# Altium schematic symbol library ADC1X2200-10_V1-1.SCHLIB: 50 symbols
Pins are listed as number, name and electrical type; pins without a type are passive.

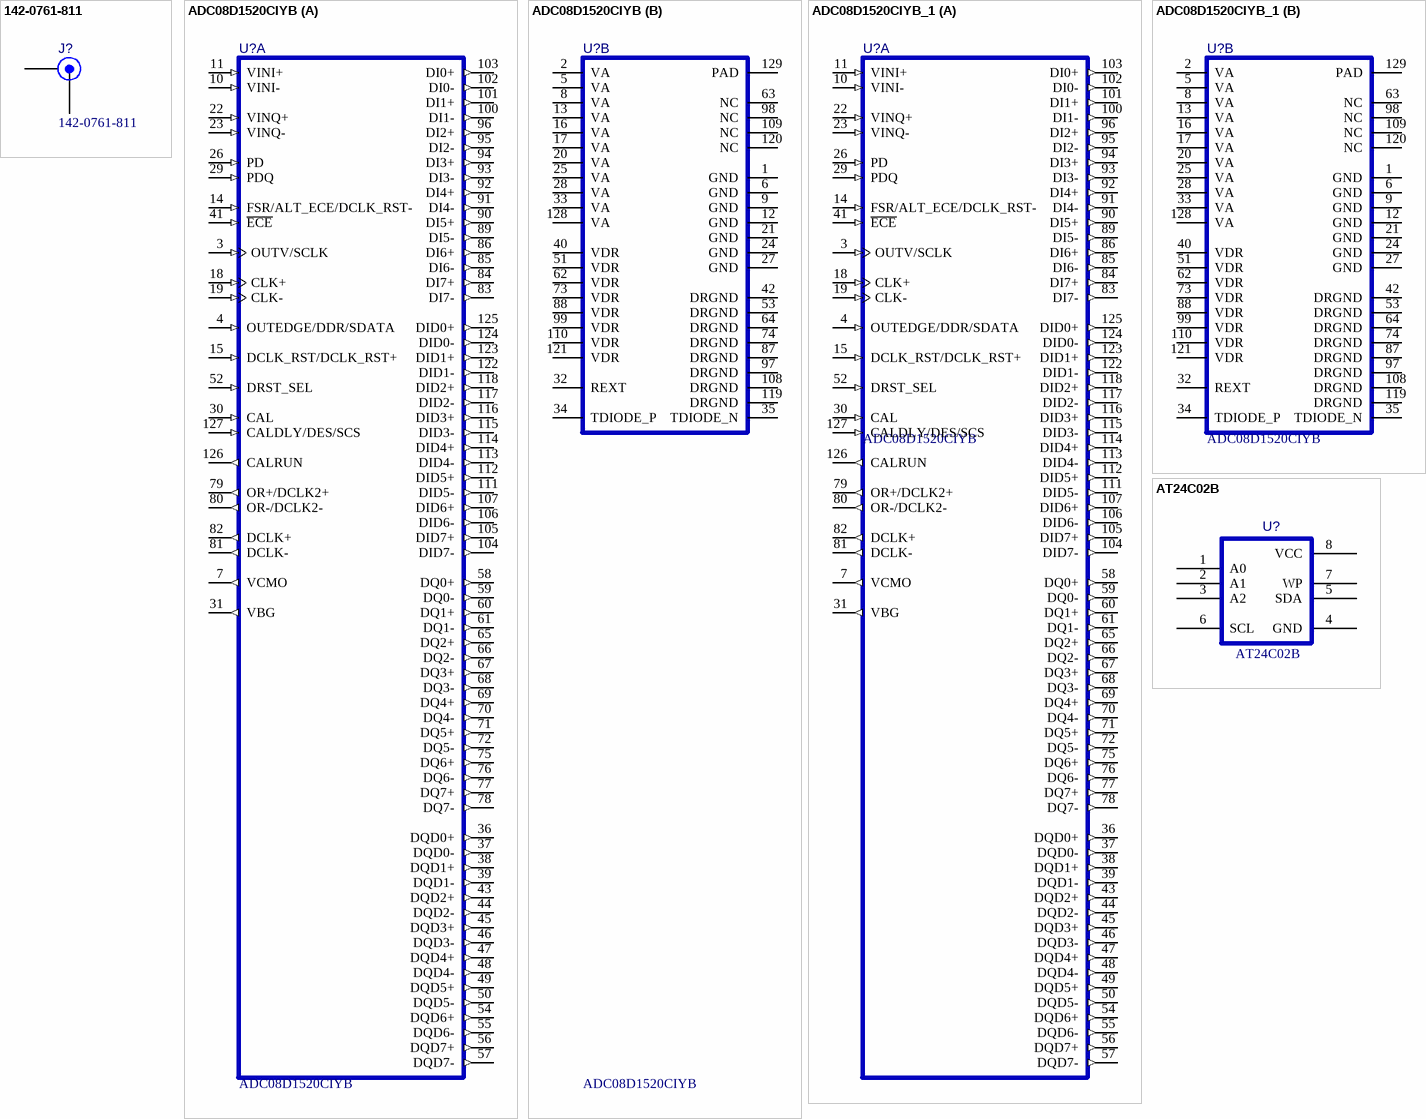
[diagram p0: symbols 142-0761-811 to AT24C02B]

## 142-0761-811
designator J?  Manufacturer_PN: 142-0761-811
High Frequency SMA End Lauch Connector; Manufacturer: JOHNSON; Created_By: CT; Voltage: ???; Checked_By: *; Checked_Date: *; HelpURL: *; ComponentLink1Description: High Frequency SMA End Lauch Connector; ComponentLink1URL: *; ComponentLink2Description: Application Note; ComponentLink2URL: *; ComponentLink3Description: Layout Guidelines; ComponentLink3URL: *; ComponentLink4Description: Technology Reference; ComponentLink4URL: *; Supplier1: *; Supplier2: *; Unit_Cost: *; MOQ: *; Leadtime: *; Inventory_Stock: *; Tolerance: *; Wattage: *; Package: *; ComponentLink5Description: Production Detail; ComponentLink5URL: *; Note: *; Stock Code: *
footprint EDGE_LAUNCH_TH_SMA
pins: 1, 2

## ADC08D1520CIYB
designator U?
Low Power, 8-Bit, Dual 1.5 GSPS or Single 3.0 GSPS A/D Converter; Manufacturer: National Semiconductor; Created_By: IN; Manufacturer_PN: ADC08D1520CIYB; Checked_By: *; Checked_Date: *; HelpURL: X:\Datasheets\By_Manufacturer\National Semi\ADC08D1520.pdf; ComponentLink1Description: X:\Datasheets\By_Manufacturer\National Semi\ADC08D1520.pdf#page=4; ComponentLink1URL: *; ComponentLink2Description: Application Note; ComponentLink2URL: *; ComponentLink3Description: Layout Guidelines; ComponentLink3URL: *; ComponentLink4Description: Technology Reference; ComponentLink4URL: *; Supplier1: *; Supplier2: *; Unit_Cost: *; MOQ: *; Leadtime: *; Inventory_Stock: *; Tolerance: *; Wattage: *; Voltage: *; Package: *; ComponentLink5Description: Production Detail; ComponentLink5URL: *; Note: *; Stock Code: *
footprint VNX128A_M (Thin QFP, 128-Leads, Body 20x20mm, Pitch 0.5mm, Exposed Pad, IPC Low Density)
footprint NS_VNX128A
part A pins: 3 OUTV/SCLK (in), 4 OUTEDGE/DDR/SDATA (in), 7 VCMO (out), 10 VINI- (in), 11 VINI+ (in), 14 FSR/ALT_ECE/DCLK_RST- (in), 15 DCLK_RST/DCLK_RST+ (in), 18 CLK+ (in), 19 CLK- (in), 22 VINQ+ (in), 23 VINQ- (in), 26 PD (in), 29 PDQ (in), 30 CAL (in), 31 VBG (out), 36 DQD0+ (out), 37 DQD0- (out), 38 DQD1+ (out), 39 DQD1- (out), 41 ~{ECE} (in), 43 DQD2+ (out), 44 DQD2- (out), 45 DQD3+ (out), 46 DQD3- (out), 47 DQD4+ (out), 48 DQD4- (out), 49 DQD5+ (out), 50 DQD5- (out), 52 DRST_SEL (in), 54 DQD6+ (out), 55 DQD6- (out), 56 DQD7+ (out), 57 DQD7- (out), 58 DQ0+ (out), 59 DQ0- (out), 60 DQ1+ (out), 61 DQ1- (out), 65 DQ2+ (out), 66 DQ2- (out), 67 DQ3+ (out), 68 DQ3- (out), 69 DQ4+ (out), 70 DQ4- (out), 71 DQ5+ (out), 72 DQ5- (out), 75 DQ6+ (out), 76 DQ6- (out), 77 DQ7+ (out), 78 DQ7- (out), 79 OR+/DCLK2+ (out), 80 OR-/DCLK2- (out), 81 DCLK- (out), 82 DCLK+ (out), 83 DI7- (out), 84 DI7+ (out), 85 DI6- (out), 86 DI6+ (out), 89 DI5- (out), 90 DI5+ (out), 91 DI4- (out), 92 DI4+ (out), 93 DI3- (out), 94 DI3+ (out), 95 DI2- (out), 96 DI2+ (out), 100 DI1- (out), 101 DI1+ (out), 102 DI0- (out), 103 DI0+ (out), 104 DID7- (out), 105 DID7+ (out), 106 DID6- (out), 107 DID6+ (out), 111 DID5- (out), 112 DID5+ (out), 113 DID4- (out), 114 DID4+ (out), 115 DID3- (out), 116 DID3+ (out), 117 DID2- (out), 118 DID2+ (out), 122 DID1- (out), 123 DID1+ (out), 124 DID0- (out), 125 DID0+ (out), 126 CALRUN (out), 127 CALDLY/DES/SCS (in)
part B pins: 1 GND (power), 2 VA (power), 5 VA (power), 6 GND (power), 8 VA (power), 9 GND (power), 12 GND (power), 13 VA (power), 16 VA (power), 17 VA (power), 20 VA (power), 21 GND (power), 24 GND (power), 25 VA (power), 27 GND (power), 28 VA (power), 32 REXT, 33 VA (power), 34 TDIODE_P, 35 TDIODE_N, 40 VDR (power), 42 DRGND (power), 51 VDR (power), 53 DRGND (power), 62 VDR (power), 63 NC, 64 DRGND (power), 73 VDR (power), 74 DRGND (power), 87 DRGND (power), 88 VDR (power), 97 DRGND (power), 98 NC, 99 VDR (power), 108 DRGND (power), 109 NC, 110 VDR (power), 119 DRGND (power), 120 NC, 121 VDR (power), 128 VA (power), 129 PAD (power)

## ADC08D1520CIYB_1
designator U?, comment ADC08D1520CIYB
Low Power, 8-Bit, Dual 1.5 GSPS or Single 3.0 GSPS A/D Converter; Manufacturer: National Semiconductor; Created_By: IN; Manufacturer_PN: ADC08D1520CIYB; Checked_By: *; Checked_Date: *; HelpURL: X:\Datasheets\By_Manufacturer\National Semi\ADC08D1520.pdf; ComponentLink1Description: X:\Datasheets\By_Manufacturer\National Semi\ADC08D1520.pdf#page=4; ComponentLink1URL: *; ComponentLink2Description: Application Note; ComponentLink2URL: *; ComponentLink3Description: Layout Guidelines; ComponentLink3URL: *; ComponentLink4Description: Technology Reference; ComponentLink4URL: *; Supplier1: *; Supplier2: *; Unit_Cost: *; MOQ: *; Leadtime: *; Inventory_Stock: *; Tolerance: *; Wattage: *; Voltage: *; Package: *; ComponentLink5Description: Production Detail; ComponentLink5URL: *; Note: *; Stock Code: *
part A pins: 3 OUTV/SCLK (in), 4 OUTEDGE/DDR/SDATA (in), 7 VCMO (out), 10 VINI- (in), 11 VINI+ (in), 14 FSR/ALT_ECE/DCLK_RST- (in), 15 DCLK_RST/DCLK_RST+ (in), 18 CLK+ (in), 19 CLK- (in), 22 VINQ+ (in), 23 VINQ- (in), 26 PD (in), 29 PDQ (in), 30 CAL (in), 31 VBG (out), 36 DQD0+ (out), 37 DQD0- (out), 38 DQD1+ (out), 39 DQD1- (out), 41 ~{ECE} (in), 43 DQD2+ (out), 44 DQD2- (out), 45 DQD3+ (out), 46 DQD3- (out), 47 DQD4+ (out), 48 DQD4- (out), 49 DQD5+ (out), 50 DQD5- (out), 52 DRST_SEL (in), 54 DQD6+ (out), 55 DQD6- (out), 56 DQD7+ (out), 57 DQD7- (out), 58 DQ0+ (out), 59 DQ0- (out), 60 DQ1+ (out), 61 DQ1- (out), 65 DQ2+ (out), 66 DQ2- (out), 67 DQ3+ (out), 68 DQ3- (out), 69 DQ4+ (out), 70 DQ4- (out), 71 DQ5+ (out), 72 DQ5- (out), 75 DQ6+ (out), 76 DQ6- (out), 77 DQ7+ (out), 78 DQ7- (out), 79 OR+/DCLK2+ (out), 80 OR-/DCLK2- (out), 81 DCLK- (out), 82 DCLK+ (out), 83 DI7- (out), 84 DI7+ (out), 85 DI6- (out), 86 DI6+ (out), 89 DI5- (out), 90 DI5+ (out), 91 DI4- (out), 92 DI4+ (out), 93 DI3- (out), 94 DI3+ (out), 95 DI2- (out), 96 DI2+ (out), 100 DI1- (out), 101 DI1+ (out), 102 DI0- (out), 103 DI0+ (out), 104 DID7- (out), 105 DID7+ (out), 106 DID6- (out), 107 DID6+ (out), 111 DID5- (out), 112 DID5+ (out), 113 DID4- (out), 114 DID4+ (out), 115 DID3- (out), 116 DID3+ (out), 117 DID2- (out), 118 DID2+ (out), 122 DID1- (out), 123 DID1+ (out), 124 DID0- (out), 125 DID0+ (out), 126 CALRUN (out), 127 CALDLY/DES/SCS (in)
part B pins: 1 GND (power), 2 VA (power), 5 VA (power), 6 GND (power), 8 VA (power), 9 GND (power), 12 GND (power), 13 VA (power), 16 VA (power), 17 VA (power), 20 VA (power), 21 GND (power), 24 GND (power), 25 VA (power), 27 GND (power), 28 VA (power), 32 REXT, 33 VA (power), 34 TDIODE_P, 35 TDIODE_N, 40 VDR (power), 42 DRGND (power), 51 VDR (power), 53 DRGND (power), 62 VDR (power), 63 NC, 64 DRGND (power), 73 VDR (power), 74 DRGND (power), 87 DRGND (power), 88 VDR (power), 97 DRGND (power), 98 NC, 99 VDR (power), 108 DRGND (power), 109 NC, 110 VDR (power), 119 DRGND (power), 120 NC, 121 VDR (power), 128 VA (power), 129 PAD (power)

## AT24C02B
designator U?
Two wire Serial EEPROM 2K (256 x 8); Manufacturer: Atmel; Created_By: IN; Manufacturer_PN: AT24C02B; Checked_By: *; Checked_Date: *; HelpURL: X:\Datasheets\By_Manufacturer\ATMEL\at24c02b.pdf; ComponentLink1Description: Footprint Detail; ComponentLink1URL: *; ComponentLink2Description: Application Note; ComponentLink2URL: *; ComponentLink3Description: Layout Guidelines; ComponentLink3URL: *; ComponentLink4Description: Technology Reference; ComponentLink4URL: *; Supplier1: *; Supplier2: *; Unit_Cost: *; MOQ: *; Leadtime: *; Inventory_Stock: *; Tolerance: *; Wattage: *; Voltage: *; Package: *; ComponentLink5Description: Production Detail; ComponentLink5URL: *; Note: *; Stock Code: *
footprint S08_SOIC127P600X175-8M (SOIC, 8-Leads, Body 5.0x4.0mm (max), Pitch 1.27mm, IPC Low Density)
footprint SOIC127P600X175-8N
pins: 1 A0, 2 A1, 3 A2, 4 GND (power), 5 SDA, 6 SCL, 7 WP, 8 VCC

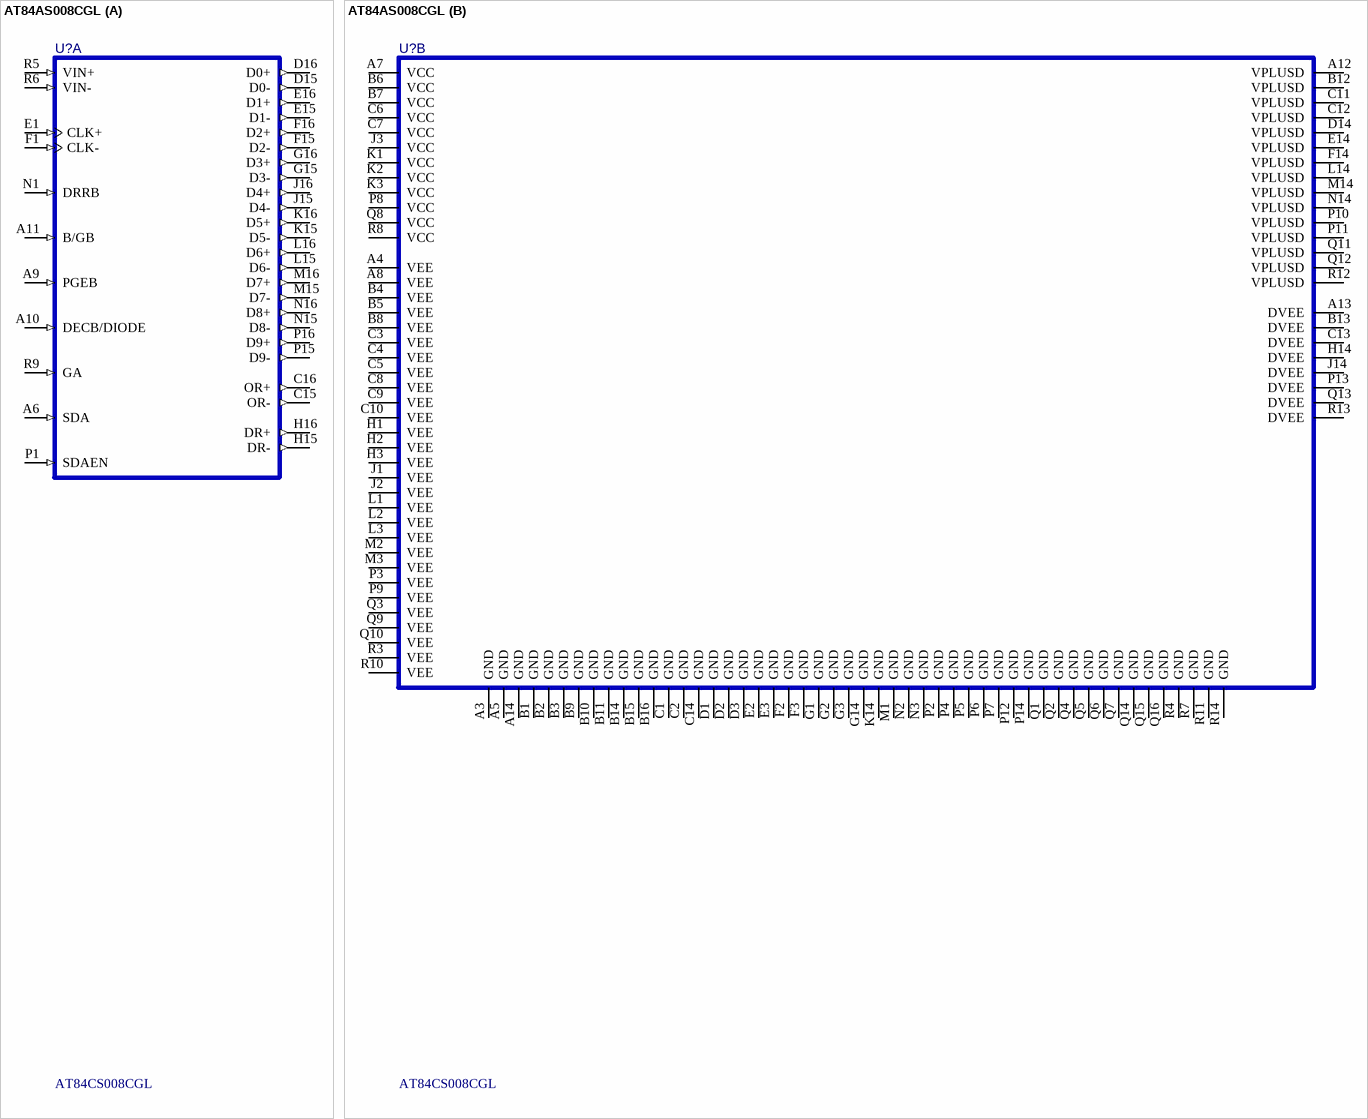
[diagram p1: symbol AT84AS008CGL]

## AT84AS008CGL
designator U?, comment AT84CS008CGL
10-bit 2.2Gsps ADC; Manufacturer: e2V; Created_By: IN; Manufacturer_PN: AT84CS008CGL; Checked_By: *; Checked_Date: *; HelpURL: X:\Datasheets\By_Manufacturer\National Semi\ADC08D1520.pdf; ComponentLink1Description: X:\Datasheets\By_Manufacturer\National Semi\ADC08D1520.pdf#page=4; ComponentLink1URL: *; ComponentLink2Description: Application Note; ComponentLink2URL: *; ComponentLink3Description: Layout Guidelines; ComponentLink3URL: *; ComponentLink4Description: Technology Reference; ComponentLink4URL: *; Supplier1: *; Supplier2: *; Unit_Cost: *; MOQ: *; Leadtime: *; Inventory_Stock: *; Tolerance: *; Wattage: *; Voltage: *; Package: *; ComponentLink5Description: Production Detail; ComponentLink5URL: *; Note: *; Stock Code: *
footprint BGA156x16 (CBGA 152 (1.27mm x 0.8mm BGA))
part A pins: A6 SDA (in), A9 PGEB (in), A10 DECB/DIODE (in), A11 B/GB (in), C15 OR- (out), C16 OR+ (out), D15 D0- (out), D16 D0+ (out), E1 CLK+ (in), E15 D1- (out), E16 D1+ (out), F1 CLK- (in), F15 D2- (out), F16 D2+ (out), G15 D3- (out), G16 D3+ (out), H15 DR- (out), H16 DR+ (out), J15 D4- (out), J16 D4+ (out), K15 D5- (out), K16 D5+ (out), L15 D6- (out), L16 D6+ (out), M15 D7- (out), M16 D7+ (out), N1 DRRB (in), N15 D8- (out), N16 D8+ (out), P1 SDAEN (in), P15 D9- (out), P16 D9+ (out), R5 VIN+ (in), R6 VIN- (in), R9 GA (in)
part B pins: A3 GND (power), A4 VEE (power), A5 GND (power), A7 VCC (power), A8 VEE (power), A12 VPLUSD (power), A13 DVEE (power), A14 GND (power), B1 GND (power), B2 GND (power), B3 GND (power), B4 VEE (power), B5 VEE (power), B6 VCC (power), B7 VCC (power), B8 VEE (power), B9 GND (power), B10 GND (power), B11 GND (power), B12 VPLUSD (power), B13 DVEE (power), B14 GND (power), B15 GND (power), B16 GND (power), C1 GND (power), C2 GND (power), C3 VEE (power), C4 VEE (power), C5 VEE (power), C6 VCC (power), C7 VCC (power), C8 VEE (power), C9 VEE (power), C10 VEE (power), C11 VPLUSD (power), C12 VPLUSD (power), C13 DVEE (power), C14 GND (power), D1 GND (power), D2 GND (power), D3 GND (power), D14 VPLUSD (power), E2 GND (power), E3 GND (power), E14 VPLUSD (power), F2 GND (power), F3 GND (power), F14 VPLUSD (power), G1 GND (power), G2 GND (power), G3 GND (power), G14 GND (power), H1 VEE (power), H2 VEE (power), H3 VEE (power), H14 DVEE (power), J1 VEE (power), J2 VEE (power), J3 VCC (power), J14 DVEE (power), K1 VCC (power), K2 VCC (power), K3 VCC (power), K14 GND (power), L1 VEE (power), L2 VEE (power), L3 VEE (power), L14 VPLUSD (power), M1 GND (power), M2 VEE (power), M3 VEE (power), M14 VPLUSD (power), N2 GND (power), N3 GND (power), N14 VPLUSD (power), P2 GND (power), P3 VEE (power), P4 GND (power), P5 GND (power), P6 GND (power), P7 GND (power), P8 VCC (power), P9 VEE (power), P10 VPLUSD (power), P11 VPLUSD (power), P12 GND (power), P13 DVEE (power), P14 GND (power), Q1 GND (power), Q2 GND (power), Q3 VEE (power), Q4 GND (power), Q5 GND (power), Q6 GND (power), Q7 GND (power), Q8 VCC (power), Q9 VEE (power), Q10 VEE (power), Q11 VPLUSD (power), Q12 VPLUSD (power), Q13 DVEE (power), Q14 GND (power), Q15 GND (power), Q16 GND (power), R3 VEE (power), R4 GND (power), R7 GND (power), R8 VCC (power), R10 VEE (power), R11 GND (power), R12 VPLUSD (power), R13 DVEE (power), R14 GND (power)

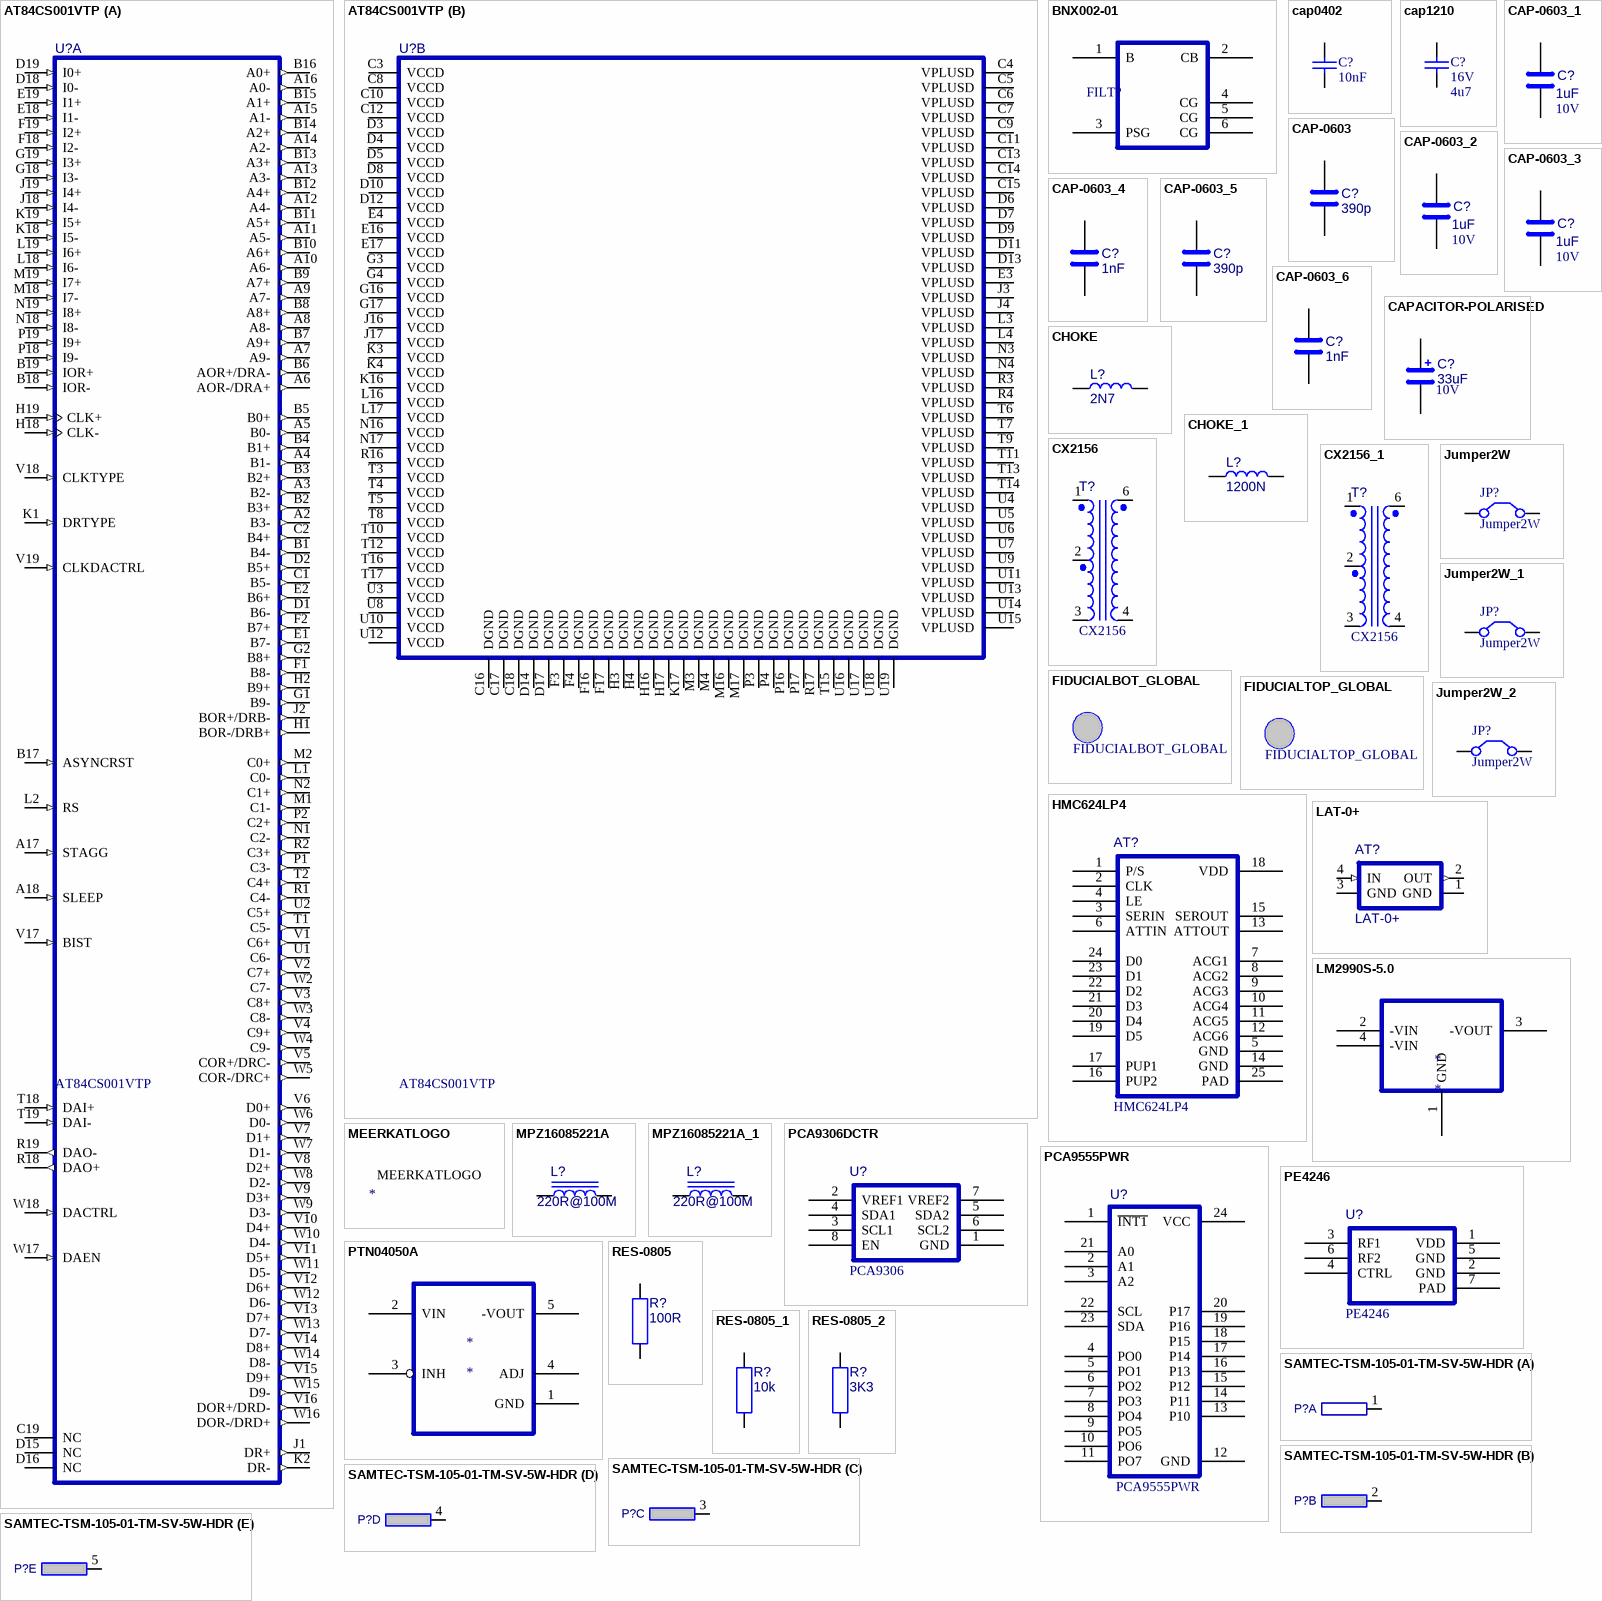
[diagram p2: symbols AT84CS001VTP to SAMTEC-TSM-105-01-TM-SV-5W-HDR]

## AT84CS001VTP
designator U?
10-bit 2.2Gsps 1:4 DMUX; Manufacturer: e2V; Created_By: IN; Manufacturer_PN: AT84CS001VTP; Checked_By: *; Checked_Date: *; HelpURL: X:\Datasheets\By_Manufacturer\National Semi\ADC08D1520.pdf; ComponentLink1Description: X:\Datasheets\By_Manufacturer\National Semi\ADC08D1520.pdf#page=4; ComponentLink1URL: *; ComponentLink2Description: Application Note; ComponentLink2URL: *; ComponentLink3Description: Layout Guidelines; ComponentLink3URL: *; ComponentLink4Description: Technology Reference; ComponentLink4URL: *; Supplier1: *; Supplier2: *; Unit_Cost: *; MOQ: *; Leadtime: *; Inventory_Stock: *; Tolerance: *; Wattage: *; Voltage: *; Package: *; ComponentLink5Description: Production Detail; ComponentLink5URL: *; Note: *; Stock Code: *
footprint BGA240x19
part A pins: A2 B3- (out), A3 B2- (out), A4 B1- (out), A5 B0- (out), A6 AOR-/DRA+ (out), A7 A9- (out), A8 A8- (out), A9 A7- (out), A10 A6- (out), A11 A5- (out), A12 A4- (out), A13 A3- (out), A14 A2- (out), A15 A1- (out), A16 A0- (out), A17 STAGG (in), A18 SLEEP (in), B1 B4- (out), B2 B3+ (out), B3 B2+ (out), B4 B1+ (out), B5 B0+ (out), B6 AOR+/DRA- (out), B7 A9+ (out), B8 A8+ (out), B9 A7+ (out), B10 A6+ (out), B11 A5+ (out), B12 A4+ (out), B13 A3+ (out), B14 A2+ (out), B15 A1+ (out), B16 A0+ (out), B17 ASYNCRST (in), B18 IOR- (in), B19 IOR+ (in), C1 B5- (out), C2 B4+ (out), C19 NC, D1 B6- (out), D2 B5+ (out), D15 NC, D16 NC, D18 I0- (in), D19 I0+ (in), E1 B7- (out), E2 B6+ (out), E18 I1- (in), E19 I1+ (in), F1 B8- (out), F2 B7+ (out), F18 I2- (in), F19 I2+ (in), G1 B9- (out), G2 B8+ (out), G18 I3- (in), G19 I3+ (in), H1 BOR-/DRB+ (out), H2 B9+ (out), H18 CLK- (in), H19 CLK+ (in), J1 DR+ (out), J2 BOR+/DRB- (out), J18 I4- (in), J19 I4+ (in), K1 DRTYPE (in), K2 DR- (out), K18 I5- (in), K19 I5+ (in), L1 C0- (out), L2 RS (in), L18 I6- (in), L19 I6+ (in), M1 C1- (out), M2 C0+ (out), M18 I7- (in), M19 I7+ (in), N1 C2- (out), N2 C1+ (out), N18 I8- (in), N19 I8+ (in), P1 C3- (out), P2 C2+ (out), P18 I9- (in), P19 I9+ (in), R1 C4- (out), R2 C3+ (out), R18 DAO+ (out), R19 DAO- (out), T1 C5- (out), T2 C4+ (out), T18 DAI+ (in), T19 DAI- (in), U1 C6- (out), U2 C5+ (out), V1 C6+ (out), V2 C7+ (out), V3 C8+ (out), V4 C9+ (out), V5 COR+/DRC- (out), V6 D0+ (out), V7 D1+ (out), V8 D2+ (out), V9 D3+ (out), V10 D4+ (out), V11 D5+ (out), V12 D6+ (out), V13 D7+ (out), V14 D8+ (out), V15 D9+ (out), V16 DOR+/DRD- (out), V17 BIST (in), V18 CLKTYPE (in), V19 CLKDACTRL (in), W2 C7- (out), W3 C8- (out), W4 C9- (out), W5 COR-/DRC+ (out), W6 D0- (out), W7 D1- (out), W8 D2- (out), W9 D3- (out), W10 D4- (out), W11 D5- (out), W12 D6- (out), W13 D7- (out), W14 D8- (out), W15 D9- (out), W16 DOR-/DRD+ (out), W17 DAEN (in), W18 DACTRL (in)
part B pins: C3 VCCD (power), C4 VPLUSD (power), C5 VPLUSD (power), C6 VPLUSD (power), C7 VPLUSD (power), C8 VCCD (power), C9 VPLUSD (power), C10 VCCD (power), C11 VPLUSD (power), C12 VCCD (power), C13 VPLUSD (power), C14 VPLUSD (power), C15 VPLUSD (power), C16 DGND (power), C17 DGND (power), C18 DGND (power), D3 VCCD (power), D4 VCCD (power), D5 VCCD (power), D6 VPLUSD (power), D7 VPLUSD (power), D8 VCCD (power), D9 VPLUSD (power), D10 VCCD (power), D11 VPLUSD (power), D12 VCCD (power), D13 VPLUSD (power), D14 DGND (power), D17 DGND (power), E3 VPLUSD (power), E4 VCCD (power), E16 VCCD (power), E17 VCCD (power), F3 DGND (power), F4 DGND (power), F16 DGND (power), F17 DGND (power), G3 VCCD (power), G4 VCCD (power), G16 VCCD (power), G17 VCCD (power), H3 DGND (power), H4 DGND (power), H16 DGND (power), H17 DGND (power), J3 VPLUSD (power), J4 VPLUSD (power), J16 VCCD (power), J17 VCCD (power), K3 VCCD (power), K4 VCCD (power), K16 VCCD (power), K17 DGND (power), L3 VPLUSD (power), L4 VPLUSD (power), L16 VCCD (power), L17 VCCD (power), M3 DGND (power), M4 DGND (power), M16 DGND (power), M17 DGND (power), N3 VPLUSD (power), N4 VPLUSD (power), N16 VCCD (power), N17 VCCD (power), P3 DGND (power), P4 DGND (power), P16 DGND (power), P17 DGND (power), R3 VPLUSD (power), R4 VPLUSD (power), R16 VCCD (power), R17 DGND (power), T3 VCCD (power), T4 VCCD (power), T5 VCCD (power), T6 VPLUSD (power), T7 VPLUSD (power), T8 VCCD (power), T9 VPLUSD (power), T10 VCCD (power), T11 VPLUSD (power), T12 VCCD (power), T13 VPLUSD (power), T14 VPLUSD (power), T15 DGND (power), T16 VCCD (power), T17 VCCD (power), U3 VCCD (power), U4 VPLUSD (power), U5 VPLUSD (power), U6 VPLUSD (power), U7 VPLUSD (power), U8 VCCD (power), U9 VPLUSD (power), U10 VCCD (power), U11 VPLUSD (power), U12 VCCD (power), U13 VPLUSD (power), U14 VPLUSD (power), U15 VPLUSD (power), U16 DGND (power), U17 DGND (power), U18 DGND (power), U19 DGND (power)

## BNX002-01
designator FILT?  (value not drawn)
Checked_By: *; Checked_Date: *; HelpURL: *; Supplier1: *; Supplier2: *; Unit_Cost: *; MOQ: *; Leadtime: *; Inventory_Stock: *; Tolerance: *; Wattage: *; Package: BNX002-01; ComponentLinked1Description: *; ComponentLinked1URL: *; ComponentLinked2Description: *; ComponentLinked2URL: *; ComponentLinked3Description: *; ComponentLinked3URL: *; ComponentLinked4Description: *; ComponentLinked4URL: *
footprint BNX002-01
pins: 1 B (power), 2 CB (power), 3 PSG (power), 4 CG (power), 5 CG (power), 6 CG (power)

## cap0402
designator C?, comment value 10nF  (hidden comment: Capacitor 0402 SMD)
Created_By: EDA-ASA; Checked_By: *; Checked_Date: *; HelpURL: *; Supplier1: *; Supplier2: *; Unit_Cost: *; MOQ: *; Leadtime: *; Inventory_Stock: *; Tolerance: *; Wattage: *; Package: 0402; ComponentLinked1Description: *; ComponentLinked1URL: *; ComponentLinked2Description: *; ComponentLinked2URL: *; ComponentLinked3Description: *; ComponentLinked3URL: *; ComponentLinked4Description: *; ComponentLinked4URL: *
footprint 1005-0402_CAP0402C1005X06N (Chip Capacitor, 2-Leads, Body 1.0x0.5mm, IPC Medium Density)
footprint CAPC1005X55N
pins: 1, 2

## cap1210
designator C?, comment value 4u7  Voltage: 16V  (hidden comment: Capacitor 1210 SMD)
Created_By: EDA-ASA; Checked_By: *; Checked_Date: *; HelpURL: *; Supplier1: *; Supplier2: *; Unit_Cost: *; MOQ: *; Leadtime: *; Inventory_Stock: *; Tolerance: *; Wattage: *; Package: 1210; ComponentLinked1Description: *; ComponentLinked1URL: *; ComponentLinked2Description: *; ComponentLinked2URL: *; ComponentLinked3Description: *; ComponentLinked3URL: *; ComponentLinked4Description: *; ComponentLinked4URL: *
footprint CAPC3225X220N
pins: 1, 2

## CAP-0603
designator C?  value 390p  (hidden comment: *)
CAP SMD 0603; Manufacturer: *; Manufacturer_PN: *; Created_By: *; Checked_By: *; Checked_Date: *; HelpURL: *; ComponentLink1Description: Footprint Detail; ComponentLink1URL: *; ComponentLink2Description: Application Note; ComponentLink2URL: *; ComponentLink3Description: Layout Guidelines; ComponentLink3URL: *; ComponentLink4Description: Technology Reference; ComponentLink4URL: *; Supplier1: *; Supplier2: *; Unit_Cost: *; MOQ: *; Leadtime: *; Inventory_Stock: *; Tolerance: *; Wattage: *; Voltage: *; Package: 0603; ComponentLink5Description: Production Detail; ComponentLink5URL: *; Note: *; Stock Code: *
footprint 1608-0603_RESC2810X04N (Chip Resistor, 2-Leads, Body 2.8x1.0mm, IPC Medium Density)
3D model RES-0603 (PCB3D Model)
footprint CAPC1005X55N
pins: 1, 2

## CAP-0603_1
designator C?  value 1uF  Voltage: 10V  (hidden comment: *)
CAP SMD 0603; Manufacturer: *; Manufacturer_PN: *; Created_By: *; Checked_By: *; Checked_Date: *; HelpURL: *; ComponentLink1Description: Footprint Detail; ComponentLink1URL: *; ComponentLink2Description: Application Note; ComponentLink2URL: *; ComponentLink3Description: Layout Guidelines; ComponentLink3URL: *; ComponentLink4Description: Technology Reference; ComponentLink4URL: *; Supplier1: *; Supplier2: *; Unit_Cost: *; MOQ: *; Leadtime: *; Inventory_Stock: *; Tolerance: *; Wattage: *; Package: 0603; ComponentLink5Description: Production Detail; ComponentLink5URL: *; Note: *; Stock Code: *
footprint 1608-0603_RESC2810X04N (Chip Resistor, 2-Leads, Body 2.8x1.0mm, IPC Medium Density)
3D model RES-0603 (PCB3D Model)
footprint CAPC1632X80USR
pins: 1, 2

## CAP-0603_2
designator C?  value 1uF  Voltage: 10V  (hidden comment: *)
CAP SMD 0603; Manufacturer: *; Manufacturer_PN: *; Created_By: *; Checked_By: *; Checked_Date: *; HelpURL: *; ComponentLink1Description: Footprint Detail; ComponentLink1URL: *; ComponentLink2Description: Application Note; ComponentLink2URL: *; ComponentLink3Description: Layout Guidelines; ComponentLink3URL: *; ComponentLink4Description: Technology Reference; ComponentLink4URL: *; Supplier1: *; Supplier2: *; Unit_Cost: *; MOQ: *; Leadtime: *; Inventory_Stock: *; Tolerance: *; Wattage: *; Package: 0603; ComponentLink5Description: Production Detail; ComponentLink5URL: *; Note: *; Stock Code: *
3D model RES-0603 (PCB3D Model)
footprint CAPC1632X80USR
pins: 1, 2

## CAP-0603_3
designator C?  value 1uF  Voltage: 10V  (hidden comment: *)
CAP SMD 0603; Manufacturer: *; Manufacturer_PN: *; Created_By: *; Checked_By: *; Checked_Date: *; HelpURL: *; ComponentLink1Description: Footprint Detail; ComponentLink1URL: *; ComponentLink2Description: Application Note; ComponentLink2URL: *; ComponentLink3Description: Layout Guidelines; ComponentLink3URL: *; ComponentLink4Description: Technology Reference; ComponentLink4URL: *; Supplier1: *; Supplier2: *; Unit_Cost: *; MOQ: *; Leadtime: *; Inventory_Stock: *; Tolerance: *; Wattage: *; Package: 0603; ComponentLink5Description: Production Detail; ComponentLink5URL: *; Note: *; Stock Code: *
footprint CAPC1632X80USR
pins: 1, 2

## CAP-0603_4
designator C?  value 1nF  (hidden comment: *)
CAP SMD 0603; Manufacturer: *; Manufacturer_PN: *; Created_By: *; Checked_By: *; Checked_Date: *; HelpURL: *; ComponentLink1Description: Footprint Detail; ComponentLink1URL: *; ComponentLink2Description: Application Note; ComponentLink2URL: *; ComponentLink3Description: Layout Guidelines; ComponentLink3URL: *; ComponentLink4Description: Technology Reference; ComponentLink4URL: *; Supplier1: *; Supplier2: *; Unit_Cost: *; MOQ: *; Leadtime: *; Inventory_Stock: *; Tolerance: *; Wattage: *; Voltage: *; Package: 0603; ComponentLink5Description: Production Detail; ComponentLink5URL: *; Note: *; Stock Code: *
footprint 1608-0603_RESC2810X04N (Chip Resistor, 2-Leads, Body 2.8x1.0mm, IPC Medium Density)
3D model RES-0603 (PCB3D Model)
footprint 0603
pins: 1, 2

## CAP-0603_5
designator C?, comment value 390p  (hidden comment: Footprint ???)
CAP SMD 0603; Manufacturer: *; Manufacturer_PN: *; Created_By: *; Checked_By: *; Checked_Date: *; HelpURL: *; ComponentLink1Description: Footprint Detail; ComponentLink1URL: *; ComponentLink2Description: Application Note; ComponentLink2URL: *; ComponentLink3Description: Layout Guidelines; ComponentLink3URL: *; ComponentLink4Description: Technology Reference; ComponentLink4URL: *; Supplier1: *; Supplier2: *; Unit_Cost: *; MOQ: *; Leadtime: *; Inventory_Stock: *; Tolerance: *; Wattage: *; Voltage: *; Package: 0603; ComponentLink5Description: Production Detail; ComponentLink5URL: *; Note: *; Stock Code: *
footprint CAPC1005X55N
pins: 1, 2

## CAP-0603_6
designator C?  value 1nF  (hidden comment: *)
CAP SMD 0603; Manufacturer: *; Manufacturer_PN: *; Created_By: *; Checked_By: *; Checked_Date: *; HelpURL: *; ComponentLink1Description: Footprint Detail; ComponentLink1URL: *; ComponentLink2Description: Application Note; ComponentLink2URL: *; ComponentLink3Description: Layout Guidelines; ComponentLink3URL: *; ComponentLink4Description: Technology Reference; ComponentLink4URL: *; Supplier1: *; Supplier2: *; Unit_Cost: *; MOQ: *; Leadtime: *; Inventory_Stock: *; Tolerance: *; Wattage: *; Voltage: *; Package: 0603; ComponentLink5Description: Production Detail; ComponentLink5URL: *; Note: *; Stock Code: *
footprint 0603
pins: 1, 2

## CAPACITOR-POLARISED
designator C?, comment Voltage: 10V  (hidden comment: 33uF)
CAPACITOR-POLARISED; Created_By: EDA-ASA; Checked_By: *; Checked_Date: *; HelpURL: *; ComponentLinked1Description: *; ComponentLinked1URL: *; ComponentLinked2Description: *; ComponentLinked2URL: *; ComponentLinked3Description: *; ComponentLinked3URL: *; ComponentLinked4Description: *; ComponentLinked4URL: *; Supplier1: *; Supplier2: *; Unit_Cost: *; MOQ: *; Leadtime: *; Inventory_Stock: *; Tolerance: *; Wattage: *; Value: 33uF
footprint 3528
pins: 1, 2

## CHOKE
designator L?  value 2N7
CHOKE; Created_By: EDA-ASA; Checked_By: *; Checked_Date: *; HelpURL: *; ComponentLinked1Description: *; ComponentLinked1URL: *; ComponentLinked2Description: *; ComponentLinked2URL: *; ComponentLinked3Description: *; ComponentLinked3URL: *; ComponentLinked4Description: *; ComponentLinked4URL: *; Supplier1: *; Supplier2: *; Unit_Cost: *; MOQ: *; Leadtime: *; Inventory_Stock: *; Tolerance: *; Wattage: *
footprint INDC1005X60N
pins: 1, 2

## CHOKE_1
designator L?, comment 1200N
CHOKE; Created_By: EDA-ASA; Checked_By: *; Checked_Date: *; HelpURL: *; ComponentLinked1Description: *; ComponentLinked1URL: *; ComponentLinked2Description: *; ComponentLinked2URL: *; ComponentLinked3Description: *; ComponentLinked3URL: *; ComponentLinked4Description: *; ComponentLinked4URL: *; Supplier1: *; Supplier2: *; Unit_Cost: *; MOQ: *; Leadtime: *; Inventory_Stock: *; Tolerance: *; Wattage: *; Value: 1200N
footprint INDM2520X160N
pins: 1, 2

## CX2156
designator T?
TRANSFORMER WIDEBAND RF APPLICATION; Voltage: ???; Manufacturer: *; Created_By: *; Checked_By: *; Checked_Date: *; HelpURL: *; ComponentLink1Description: TRANSFORMER WIDEBAND RF APPLICATION; ComponentLink1URL: *; ComponentLink2Description: Application Note; ComponentLink2URL: *; ComponentLink3Description: Layout Guidelines; ComponentLink3URL: *; ComponentLink4Description: Technology Reference; ComponentLink4URL: *; Supplier1: *; Supplier2: *; Unit_Cost: *; MOQ: *; Leadtime: *; Inventory_Stock: *; Tolerance: *; Wattage: *; Package: *; ComponentLink5Description: Production Detail; ComponentLink5URL: *; Note: *; Stock Code: *; Manufacturer_PN: CX2156
footprint CX2156 (TRANSFORMER  FOR RF APPLICATION)
footprint PULSE_KAYAK
pins: 1, 2, 3, 4, 6

## CX2156_1
designator T?, comment CX2156
TRANSFORMER WIDEBAND RF APPLICATION; Voltage: ???; Manufacturer: *; Created_By: *; Checked_By: *; Checked_Date: *; HelpURL: *; ComponentLink1Description: TRANSFORMER WIDEBAND RF APPLICATION; ComponentLink1URL: *; ComponentLink2Description: Application Note; ComponentLink2URL: *; ComponentLink3Description: Layout Guidelines; ComponentLink3URL: *; ComponentLink4Description: Technology Reference; ComponentLink4URL: *; Supplier1: *; Supplier2: *; Unit_Cost: *; MOQ: *; Leadtime: *; Inventory_Stock: *; Tolerance: *; Wattage: *; Package: *; ComponentLink5Description: Production Detail; ComponentLink5URL: *; Note: *; Stock Code: *; Manufacturer_PN: CX2156
footprint PULSE_KAYAK
pins: 1, 2, 3, 4, 6

## FIDUCIALBOT_GLOBAL
designator F?
Value: ????; Manufacturer: *; Manufacturer_PN: *; Created_By: *; Checked_By: *; Checked_Date: *; HelpURL: *; ComponentLink1Description: Footprint Detail; ComponentLink1URL: *; ComponentLink2Description: Application Note; ComponentLink2URL: *; ComponentLink3Description: Layout Guidelines; ComponentLink3URL: *; ComponentLink4Description: Technology Reference; ComponentLink4URL: *; Supplier1: *; Supplier2: *; Unit_Cost: *; MOQ: *; Leadtime: *; Inventory_Stock: *; Tolerance: *; Wattage: *; Voltage: *; Package: *; ComponentLink5Description: Production Detail; ComponentLink5URL: *; Note: *; Stock Code: *
footprint FiducialBot_Global (1.5mm x 1.5mm)

## FIDUCIALTOP_GLOBAL
designator F?
Value: ????; Manufacturer: *; Manufacturer_PN: *; Created_By: *; Checked_By: *; Checked_Date: *; HelpURL: *; ComponentLink1Description: Footprint Detail; ComponentLink1URL: *; ComponentLink2Description: Application Note; ComponentLink2URL: *; ComponentLink3Description: Layout Guidelines; ComponentLink3URL: *; ComponentLink4Description: Technology Reference; ComponentLink4URL: *; Supplier1: *; Supplier2: *; Unit_Cost: *; MOQ: *; Leadtime: *; Inventory_Stock: *; Tolerance: *; Wattage: *; Voltage: *; Package: *; ComponentLink5Description: Production Detail; ComponentLink5URL: *; Note: *; Stock Code: *
footprint FiducialTop_Global (1.5mm x 1.5mm)

## HMC624LP4
designator AT?
Broadband 6-bit IC Digital Attenuator; Manufacturer: Hittite; Created_By: IN; Checked_By: NN; Manufacturer_PN: HMC624LP4; Checked_Date: NN-08-2009; HelpURL: X:\Datasheets\By_Manufacturer\Hittite\hmc624lp4.pdf; ComponentLink1Description: Footprint Detail; ComponentLink1URL: X:\Datasheets\By_Manufacturer\Hittite\hmc624lp4.pdf#page=6; ComponentLink2Description: Application Note; ComponentLink2URL: *; ComponentLink3Description: Layout Guidelines; ComponentLink3URL: X:\Datasheets\By_Manufacturer\Hittite\hmc624lp4.pdf#page=9; ComponentLink4Description: Technology Reference; ComponentLink4URL: *; Supplier1: *; Supplier2: *; Unit_Cost: *; MOQ: *; Leadtime: *; Inventory_Stock: *; Tolerance: *; Wattage: *; Voltage: *; Package: QFN24; ComponentLink5Description: Production Detail; ComponentLink5URL: *; Note: *; Stock Code: *
footprint QFN50P400X400X100-25USR
pins: 1 P/S, 2 CLK, 3 SERIN, 4 LE, 5 GND, 6 ATTIN, 7 ACG1, 8 ACG2, 9 ACG3, 10 ACG4, 11 ACG5, 12 ACG6, 13 ATTOUT, 14 GND, 15 SEROUT, 16 PUP2, 17 PUP1, 18 VDD, 19 D5, 20 D4, 21 D3, 22 D2, 23 D1, 24 D0, 25 PAD

## Jumper2W
designator JP?
Jumper Wire; Published: 24-Mar-1999; LatestRevisionDate: 17-Jul-2002; LatestRevisionNote: Re-released for DXP Platform.; PackageReference: RAD-0.2; Publisher: Altium Limited
footprint JP-100MIL
footprint JP-100MIL
footprint JUMPER
pins: 1 C1, 2 C2

## Jumper2W_1
designator JP?, comment Jumper2W
Jumper Wire; Published: 24-Mar-1999; LatestRevisionDate: 17-Jul-2002; LatestRevisionNote: Re-released for DXP Platform.; PackageReference: RAD-0.2; Publisher: Altium Limited
footprint 0603
footprint JUMPER
pins: 1 C1, 2 C2

## Jumper2W_2
designator JP?, comment Jumper2W
Jumper Wire; Published: 24-Mar-1999; LatestRevisionDate: 17-Jul-2002; LatestRevisionNote: Re-released for DXP Platform.; PackageReference: RAD-0.2; Publisher: Altium Limited
footprint JP-100MIL
pins: 1 C1, 2 C2

## LAT-0+
designator AT?  Manufacturer_PN: LAT-0+
Fixed Attenuator; Manufacturer: Mini-Circuits; Created_By: CT; Checked_By: *; Checked_Date: *; HelpURL: X:\Datasheets\By_Manufacturer\Mini Circuits\LAT-0+.pdf; ComponentLink1Description: Fixed Attenuator; ComponentLink1URL: *; ComponentLink2Description: Application Note; ComponentLink2URL: *; ComponentLink3Description: Layout Guidelines; ComponentLink3URL: *; ComponentLink4Description: Technology Reference; ComponentLink4URL: *; Supplier1: *; Supplier2: *; Unit_Cost: *; MOQ: *; Leadtime: *; Inventory_Stock: *; Tolerance: *; Wattage: *; Voltage: *; Package: *; ComponentLink5Description: Production Detail; ComponentLink5URL: *; Note: *; Stock Code: *
footprint SOT143_SOT192P237X120-4N (SOT143, 4-Leads, Body 3.0x2.6mm (max), Pitch 1.92mm, IPC Medium Density)
footprint MINICIRCUITS_MMM168
pins: 1 GND (power), 2 OUT (out), 3 GND (power), 4 IN (in)

## LM2990S-5.0
designator *
footprint TI_TO-263-3
pins: 1 GND (power), 2 -VIN (power), 3 -VOUT (power), 4 -VIN (power)

## MEERKATLOGO
designator LOGO?
footprint MEERKATLOGO

## MPZ16085221A
designator L?, comment Voltage: 220R@100M  (hidden comment: TDK)
POWER LINE; Manufacturer_PN: MPZ16085221A; Manufacturer: TDK; Created_By: *; Checked_By: *; Checked_Date: *; HelpURL: *; ComponentLink1Description: Footprint Detail; ComponentLink1URL: *; ComponentLink2Description: Application Note; ComponentLink2URL: *; ComponentLink3Description: Layout Guidelines; ComponentLink3URL: *; ComponentLink4Description: Technology Reference; ComponentLink4URL: *; Supplier1: *; Supplier2: *; Unit_Cost: *; MOQ: *; Leadtime: *; Inventory_Stock: *; Tolerance: *; Wattage: *; Package: *; ComponentLink5Description: Production Detail; ComponentLink5URL: *; Note: *; Stock Code: *
footprint INDC1608X80USR
pins: 1, 2

## MPZ16085221A_1
designator L?, comment Voltage: 220R@100M  (hidden comment: TDK)
POWER LINE; Manufacturer_PN: MPZ16085221A; Manufacturer: TDK; Created_By: *; Checked_By: *; Checked_Date: *; HelpURL: *; ComponentLink1Description: Footprint Detail; ComponentLink1URL: *; ComponentLink2Description: Application Note; ComponentLink2URL: *; ComponentLink3Description: Layout Guidelines; ComponentLink3URL: *; ComponentLink4Description: Technology Reference; ComponentLink4URL: *; Supplier1: *; Supplier2: *; Unit_Cost: *; MOQ: *; Leadtime: *; Inventory_Stock: *; Tolerance: *; Wattage: *; Package: *; ComponentLink5Description: Production Detail; ComponentLink5URL: *; Note: *; Stock Code: *
footprint MPZ1608S221A-INDC1908X08N (Chip Inductor, 2-Leads, Body 1.9x0.8mm, IPC Medium Density)
footprint INDC1608X80USR
pins: 1, 2

## PCA9306DCTR
designator U?, comment PCA9306
Dual Bidirectional I2C Bus and SMBus Voltage-Level Translator; Manufacturer: TI; Created_By: IN; Manufacturer_PN: PCA9306; Checked_By: *; Checked_Date: *; HelpURL: X:\Datasheets\By_Manufacturer\TI\pca9306.pdf; ComponentLink1Description: Footprint Detail; ComponentLink1URL: *; ComponentLink2Description: Application Note; ComponentLink2URL: *; ComponentLink3Description: Layout Guidelines; ComponentLink3URL: *; ComponentLink4Description: Technology Reference; ComponentLink4URL: *; Supplier1: *; Supplier2: *; Unit_Cost: *; MOQ: *; Leadtime: *; Inventory_Stock: *; Tolerance: *; Wattage: *; Voltage: *; Package: *; ComponentLink5Description: Production Detail; ComponentLink5URL: *; Note: *; Stock Code: *
footprint SOP8_TSOP127P640X150-8N (TSOP, 8-Leads, Body 6.3x4.7mm (max), Pitch 1.27mm, IPC Medium Density)
footprint SOP65P400X130-8USR
pins: 1 GND, 2 VREF1, 3 SCL1, 4 SDA1, 5 SDA2, 6 SCL2, 7 VREF2, 8 EN

## PCA9555PWR
designator U?
Remote 16-Bit I2C and SMBus  I/O expander; Manufacturer: TI; Created_By: IN; Manufacturer_PN: PCA9555PWR; Checked_By: *; Checked_Date: *; HelpURL: X:\Datasheets\By_Manufacturer\TI\pca9555.pdf; ComponentLink1Description: X:\Datasheets\By_Manufacturer\TI\pca9555.pdf#page=22; ComponentLink1URL: *; ComponentLink2Description: Application Note; ComponentLink2URL: *; ComponentLink3Description: Layout Guidelines; ComponentLink3URL: *; ComponentLink4Description: Technology Reference; ComponentLink4URL: *; Supplier1: *; Supplier2: *; Unit_Cost: *; MOQ: *; Leadtime: *; Inventory_Stock: *; Tolerance: *; Wattage: *; Voltage: *; Package: *; ComponentLink5Description: Production Detail; ComponentLink5URL: *; Note: *; Stock Code: *
footprint TSSOP-6X16_TSSOP50P1600X127-24N (TSSOP, 24-Leads, Body 6.2x16.6mm (max), Pitch 0.50mm, IPC Medium Density)
footprint TI_TSSOP24
pins: 1 ~{INT1}, 2 A1, 3 A2, 4 PO0, 5 PO1, 6 PO2, 7 PO3, 8 PO4, 9 PO5, 10 PO6, 11 PO7, 12 GND, 13 P10, 14 P11, 15 P12, 16 P13, 17 P14, 18 P15, 19 P16, 20 P17, 21 A0, 22 SCL, 23 SDA, 24 VCC

## PE4246
designator U?
Absorptive SPST UltraCMOS RF Switch; Manufacturer: Pergrime Semiconductor; Created_By: IN; Manufacturer_PN: PE4246; Checked_By: *; Checked_Date: *; HelpURL: X:\Datasheets\By Manufacturer\Pergrime\pe4246ds.pdf; ComponentLink1Description: X:\Datasheets\By Manufacturer\Pergrime\pe4246ds.pdf#page=5; ComponentLink1URL: *; ComponentLink2Description: Application Note; ComponentLink2URL: *; ComponentLink3Description: Layout Guidelines; ComponentLink3URL: *; ComponentLink4Description: Technology Reference; ComponentLink4URL: *; Supplier1: *; Supplier2: *; Unit_Cost: *; MOQ: *; Leadtime: *; Inventory_Stock: *; Tolerance: *; Wattage: *; Voltage: *; Package: *; ComponentLink5Description: Production Detail; ComponentLink5URL: *; Note: *; Stock Code: *
footprint PSON95P300X300X90-7USR
pins: 1 VDD, 2 GND, 3 RF1, 4 CTRL, 5 GND, 6 RF2, 7 PAD

## PTN04050A
designator *
footprint TI_EUU
pins: 1 GND (power), 2 VIN (power), 3 INH, 4 ADJ, 5 -VOUT (power)

## RES-0805
designator R?, comment 100R
RESISTOR SMD 0805; Checked_By: NN; Manufacturer: *; Manufacturer_PN: *; Created_By: *; Checked_Date: 5-08-2009; HelpURL: *; ComponentLink1Description: Footprint Detail; ComponentLink1URL: *; ComponentLink2Description: Application Note; ComponentLink2URL: *; ComponentLink3Description: Layout Guidelines; ComponentLink3URL: *; ComponentLink4Description: Technology Reference; ComponentLink4URL: *; Supplier1: *; Supplier2: *; Unit_Cost: *; MOQ: *; Leadtime: *; Inventory_Stock: *; Tolerance: *; Wattage: *; Voltage: *; Package: 0805; ComponentLink5Description: Production Detail; ComponentLink5URL: *; Note: *; Stock Code: *; Value: 100R
footprint 2012-0805_RESC3215X06N (Chip Resistor, 2-Leads, Body 3.2x1.5mm, IPC Medium Density)
footprint RESC1005X40N
pins: 1, 2

## RES-0805_1
designator R?  value 10k  (hidden comment: *)
RESISTOR SMD 0805; Checked_By: NN; Manufacturer: *; Manufacturer_PN: *; Created_By: *; Checked_Date: 5-08-2009; HelpURL: *; ComponentLink1Description: Footprint Detail; ComponentLink1URL: *; ComponentLink2Description: Application Note; ComponentLink2URL: *; ComponentLink3Description: Layout Guidelines; ComponentLink3URL: *; ComponentLink4Description: Technology Reference; ComponentLink4URL: *; Supplier1: *; Supplier2: *; Unit_Cost: *; MOQ: *; Leadtime: *; Inventory_Stock: *; Tolerance: *; Wattage: *; Voltage: *; Package: 0805; ComponentLink5Description: Production Detail; ComponentLink5URL: *; Note: *; Stock Code: *
footprint 2012-0805_RESC3215X06N (Chip Resistor, 2-Leads, Body 3.2x1.5mm, IPC Medium Density)
footprint 0603
pins: 1, 2

## RES-0805_2
designator R?, comment 3K3
RESISTOR SMD 0805; Checked_By: NN; Manufacturer: *; Manufacturer_PN: *; Created_By: *; Checked_Date: 5-08-2009; HelpURL: *; ComponentLink1Description: Footprint Detail; ComponentLink1URL: *; ComponentLink2Description: Application Note; ComponentLink2URL: *; ComponentLink3Description: Layout Guidelines; ComponentLink3URL: *; ComponentLink4Description: Technology Reference; ComponentLink4URL: *; Supplier1: *; Supplier2: *; Unit_Cost: *; MOQ: *; Leadtime: *; Inventory_Stock: *; Tolerance: *; Wattage: *; Voltage: *; Package: 0805; ComponentLink5Description: Production Detail; ComponentLink5URL: *; Note: *; Stock Code: *; Value: 3K3
footprint 0603
pins: 1, 2

## SAMTEC-TSM-105-01-TM-SV-5W-HDR
designator P?  (value not drawn)
Value: {Value}
footprint SAMTEC-TSM-105-01-TM-SV-5W-HDR
footprint TSM_5X1_SV
part A pins: 1
part B pins: 2
part C pins: 3
part D pins: 4
part E pins: 5

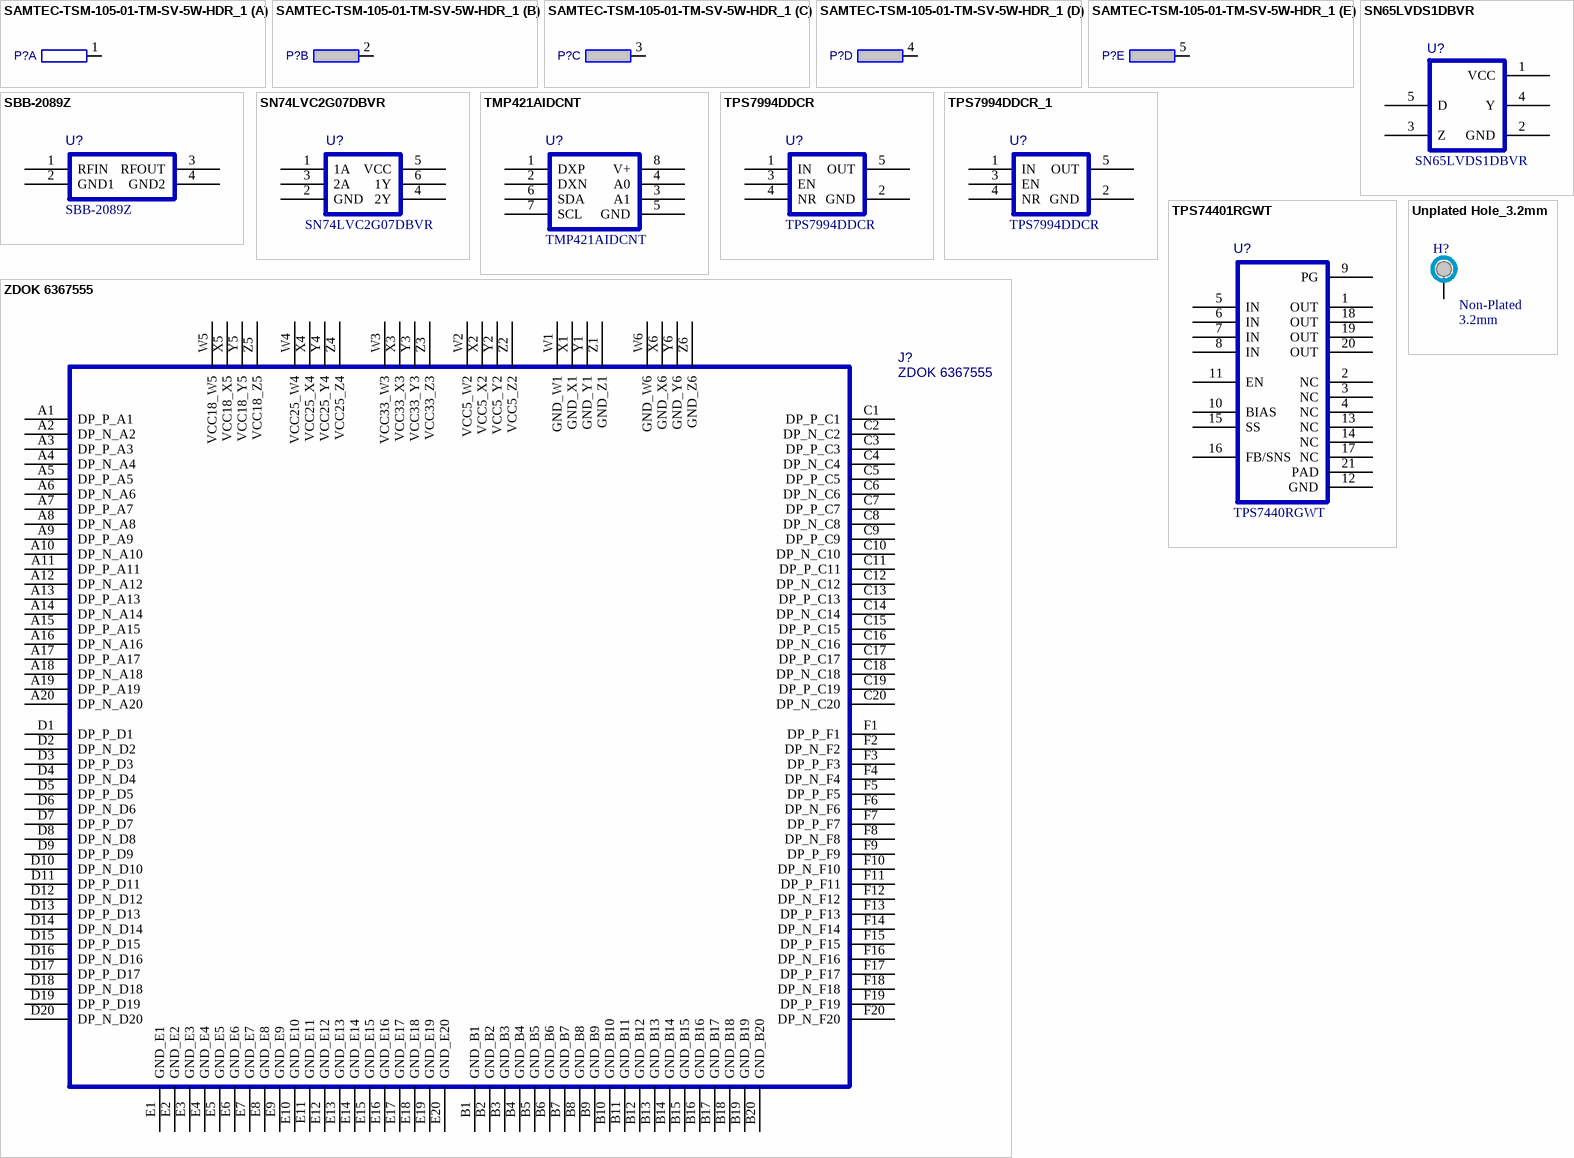
[diagram p3: symbols SAMTEC-TSM-105-01-TM-SV-5W-HDR_1 to ZDOK 6367555]

## SAMTEC-TSM-105-01-TM-SV-5W-HDR_1
designator P?, comment SAMTEC-TSM-105-01-TM-SV-5W-HDR  (value not drawn)
Value: {Value}
footprint TSM_5X1_SV
part A pins: 1
part B pins: 2
part C pins: 3
part D pins: 4
part E pins: 5

## SBB-2089Z
designator U?
High performance InaGaP HBT MMIC amplfier; Manufacturer: Sirenza Micodevices; Created_By: IN; Manufacturer_PN: SBB-2089Z; Checked_By: *; Checked_Date: *; HelpURL: X:\Datasheets\By_Manufacturer\Sirenza\SBB-2089(Z)_Datasheet.pdf; ComponentLink1Description: Footprint Detail; ComponentLink1URL: X:\Datasheets\By_Manufacturer\Sirenza\SBB-2089(Z)_Datasheet.pdf#Page=5; ComponentLink2Description: Application Note; ComponentLink2URL: *; ComponentLink3Description: Layout Guidelines; ComponentLink3URL: *; ComponentLink4Description: Technology Reference; ComponentLink4URL: *; Supplier1: *; Supplier2: *; Unit_Cost: *; MOQ: *; Leadtime: *; Inventory_Stock: *; Tolerance: *; Wattage: *; Voltage: *; Package: *; ComponentLink5Description: Production Detail; ComponentLink5URL: *; Note: *; Stock Code: *
footprint SOT89_150P409X160-3N (SOT89, 3-Leads, Body 4.5x2.4mm (max), Pitch 1.50mm, Lead Span 4.1mm, IPC Medium Density)
footprint SIRENZA_SOT89
pins: 1 RFIN, 2 GND1, 3 RFOUT, 4 GND2

## SN65LVDS1DBVR
designator U?
High Speed Differential Line Driver/Receiver; Manufacturer: TI; Created_By: IN; Manufacturer_PN: SN65LVDS1DBVR; Checked_By: *; Checked_Date: *; HelpURL: X:\Datasheets\By_Manufacturer\TI\sn65lvds1.pdf; ComponentLink1Description: X:\Datasheets\By_Manufacturer\TI\sn65lvds1.pdf#page=13; ComponentLink1URL: *; ComponentLink2Description: Application Note; ComponentLink2URL: *; ComponentLink3Description: Layout Guidelines; ComponentLink3URL: *; ComponentLink4Description: Technology Reference; ComponentLink4URL: *; Supplier1: *; Supplier2: *; Unit_Cost: *; MOQ: *; Leadtime: *; Inventory_Stock: *; Tolerance: *; Wattage: *; Voltage: *; Package: *; ComponentLink5Description: Production Detail; ComponentLink5URL: *; Note: *; Stock Code: *
footprint SOT23-5 (SOT23, 5-Leads, Body 3.1x3.2mm (max), Pitch 0.95mm, IPC Medium Density (FPCHK_NN-08-2009))
footprint SOT95P280X145-5N
pins: 1 VCC, 2 GND, 3 Z, 4 Y, 5 D

## SN74LVC2G07DBVR
designator U?
Dual Buffer/Driver with open-drain output; Manufacturer: TI; Created_By: IN; Manufacturer_PN: SN74LVC2G07DBVR; Checked_By: *; Checked_Date: *; HelpURL: X:\Datasheets\By_Manufacturer\TI\sn74lvc2g07.pdf; ComponentLink1Description: Footprint Detail; ComponentLink2Description: Application Note; ComponentLink2URL: *; ComponentLink3Description: Layout Guidelines; ComponentLink3URL: *; ComponentLink4Description: Technology Reference; ComponentLink4URL: *; Supplier1: *; Supplier2: *; Unit_Cost: *; MOQ: *; Leadtime: *; Inventory_Stock: *; Tolerance: *; Wattage: *; Voltage: *; Package: *; ComponentLink5Description: Production Detail; ComponentLink5URL: *; Note: *; Stock Code: *
footprint SOT-23-6_SOT95P245X145-6N (SOT23, 6-Leads, Body 3.0x2.6mm (max), Pitch 0.95mm, IPC Medium Density)
footprint SOT95P280X145-6N
pins: 1 1A, 2 GND, 3 2A, 4 2Y, 5 VCC, 6 1Y

## TMP421AIDCNT
designator U?
Remote and Local TempreatureSensor in SOT23-8; Manufacturer: TI; Manufacturer_PN: TMP421AIDCNT; Created_By: IN; Checked_By: *; Checked_Date: *; HelpURL: X:Datasheets\By_Manufacturer\TI\tmp421.pdf; ComponentLink1Description: Footprint Detail; ComponentLink1URL: X:Datasheets\By_Manufacturer\TI\tmp421.pdf; ComponentLink2Description: Application Note; ComponentLink2URL: *; ComponentLink3Description: Layout Guidelines; ComponentLink3URL: *; ComponentLink4Description: Technology Reference; ComponentLink4URL: *; Supplier1: *; Supplier2: *; Unit_Cost: *; MOQ: *; Leadtime: *; Inventory_Stock: *; Tolerance: *; Wattage: *; Voltage: *; Package: *; ComponentLink5Description: Production Detail; ComponentLink5URL: *; Note: *; Stock Code: *
footprint TI_SOT23-8
pins: 1 DXP, 2 DXN, 3 A1, 4 A0, 5 GND, 6 SDA, 7 SCL, 8 V+

## TPS7994DDCR
designator U?
Low Quiescent Current, Ultra-Low Noise Dropout Linear Regulator; Manufacturer: TI; Created_By: IN; Manufacturer_PN: TPS7994DDCR; Checked_By: *; Checked_Date: *; HelpURL: X:\Datacheets\By_Manufacture\TI\296-17776-2.pdf; ComponentLink1Description: Footprint Detail; ComponentLink1URL: *; ComponentLink2Description: Application Note; ComponentLink2URL: *; ComponentLink3Description: Layout Guidelines; ComponentLink3URL: *; ComponentLink4Description: Technology Reference; ComponentLink4URL: *; Supplier1: *; Supplier2: *; Unit_Cost: *; MOQ: *; Leadtime: *; Inventory_Stock: *; Tolerance: *; Wattage: *; Voltage: *; Package: *; ComponentLink5Description: Production Detail; ComponentLink5URL: *; Note: *; Stock Code: *
footprint SOT95P280X110-5USR2
footprint SOT95P280X110-5USR2
pins: 1 IN, 2 GND, 3 EN, 4 NR, 5 OUT

## TPS7994DDCR_1
designator U?, comment TPS7994DDCR
Low Quiescent Current, Ultra-Low Noise Dropout Linear Regulator; Manufacturer: TI; Created_By: IN; Manufacturer_PN: TPS7994DDCR; Checked_By: *; Checked_Date: *; HelpURL: X:\Datacheets\By_Manufacture\TI\296-17776-2.pdf; ComponentLink1Description: Footprint Detail; ComponentLink1URL: *; ComponentLink2Description: Application Note; ComponentLink2URL: *; ComponentLink3Description: Layout Guidelines; ComponentLink3URL: *; ComponentLink4Description: Technology Reference; ComponentLink4URL: *; Supplier1: *; Supplier2: *; Unit_Cost: *; MOQ: *; Leadtime: *; Inventory_Stock: *; Tolerance: *; Wattage: *; Voltage: *; Package: *; ComponentLink5Description: Production Detail; ComponentLink5URL: *; Note: *; Stock Code: *
footprint SOT23-5 (SOT23, 5-Leads, Body 3.1x3.2mm (max), Pitch 0.95mm, IPC Medium Density (FPCHK_NN-08-2009))
footprint SOT95P280X110-5USR
pins: 1 IN, 2 GND, 3 EN, 4 NR, 5 OUT

## TPS74401RGWT
designator U?, comment TPS7440RGWT
3.0A Ultra-LDO with Programmable Soft-Start; Manufacturer: TI; Created_By: IN; Manufacturer_PN: TPS7440RGWT; Checked_By: *; Checked_Date: *; HelpURL: X:\Datasheets\By Manufacturer\TI\tps74401.pdf; ComponentLink1Description: Footprint Detail; ComponentLink1URL: X:\Datasheets\By Manufacturer\TI\tps74401.pdf#page=12; ComponentLink2Description: Application Note; ComponentLink2URL: X:\Datasheets\By Manufacturer\TI\tps74401.pdf#page=13; ComponentLink3Description: Layout Guidelines; ComponentLink3URL: X:\Datasheets\By Manufacturer\TI\tps74401.pdf#page=14; ComponentLink4Description: Technology Reference; ComponentLink4URL: X:\Datasheets\By Manufacturer\TI\tps74401.pdf#page=15; Supplier1: *; Supplier2: *; Unit_Cost: *; MOQ: *; Leadtime: *; Inventory_Stock: *; Tolerance: *; Wattage: *; Voltage: *; Package: *; ComponentLink5Description: Production Detail; ComponentLink5URL: *; Note: *; Stock Code: *
footprint QFN65P500X500X100-21AN
pins: 1 OUT, 2 NC, 3 NC, 4 NC, 5 IN, 6 IN, 7 IN, 8 IN, 9 PG, 10 BIAS, 11 EN, 12 GND, 13 NC, 14 NC, 15 SS, 16 FB/SNS, 17 NC, 18 OUT, 19 OUT, 20 OUT, 21 PAD

## Unplated Hole_3.2mm
designator H?, comment Non-Plated  HoleDia: 3.2mm  (no BOM)
PCB Mounting Hole; Category: Mounting Hole
footprint HOLE
pins: 1 TP

## ZDOK 6367555
designator J?, comment Manufacturer_PN: ZDOK 6367555  (hidden comment: Z-DOK)
Created_By: CT; Manufacturer: Z-DOK; Checked_By: *; Checked_Date: *; HelpURL: ENG_CS_1773095_Backplane_Connectors_Z-DOK_1208.pdf; ComponentLink1Description: Footprint Detail; ComponentLink1URL: ENG_CS_1773095_Backplane_Connectors_Z-DOK_1208.pdf#page=4; ComponentLink2Description: Application Note; ComponentLink2URL: *; ComponentLink3Description: Layout Guidelines; ComponentLink3URL: *; ComponentLink4Description: Technology Reference; ComponentLink4URL: *; Supplier1: *; Supplier2: *; Unit_Cost: *; MOQ: *; Leadtime: *; Inventory_Stock: *; Tolerance: *; Wattage: *; Package: *; ComponentLink5Description: Production Detail; ComponentLink5URL: *; Note: *; Stock Code: *
footprint TYCO6367555
pins: A1 DP_P_A1, A2 DP_N_A2, A3 DP_P_A3, A4 DP_N_A4, A5 DP_P_A5, A6 DP_N_A6, A7 DP_P_A7, A8 DP_N_A8, A9 DP_P_A9, A10 DP_N_A10, A11 DP_P_A11, A12 DP_N_A12, A13 DP_P_A13, A14 DP_N_A14, A15 DP_P_A15, A16 DP_N_A16, A17 DP_P_A17, A18 DP_N_A18, A19 DP_P_A19, A20 DP_N_A20, B1 GND_B1, B2 GND_B2, B3 GND_B3, B4 GND_B4, B5 GND_B5, B6 GND_B6, B7 GND_B7, B8 GND_B8, B9 GND_B9, B10 GND_B10, B11 GND_B11, B12 GND_B12, B13 GND_B13, B14 GND_B14, B15 GND_B15, B16 GND_B16, B17 GND_B17, B18 GND_B18, B19 GND_B19, B20 GND_B20, C1 DP_P_C1, C2 DP_N_C2, C3 DP_P_C3, C4 DP_N_C4, C5 DP_P_C5, C6 DP_N_C6, C7 DP_P_C7, C8 DP_N_C8, C9 DP_P_C9, C10 DP_N_C10, C11 DP_P_C11, C12 DP_N_C12, C13 DP_P_C13, C14 DP_N_C14, C15 DP_P_C15, C16 DP_N_C16, C17 DP_P_C17, C18 DP_N_C18, C19 DP_P_C19, C20 DP_N_C20, D1 DP_P_D1, D2 DP_N_D2, D3 DP_P_D3, D4 DP_N_D4, D5 DP_P_D5, D6 DP_N_D6, D7 DP_P_D7, D8 DP_N_D8, D9 DP_P_D9, D10 DP_N_D10, D11 DP_P_D11, D12 DP_N_D12, D13 DP_P_D13, D14 DP_N_D14, D15 DP_P_D15, D16 DP_N_D16, D17 DP_P_D17, D18 DP_N_D18, D19 DP_P_D19, D20 DP_N_D20, E1 GND_E1, E2 GND_E2, E3 GND_E3, E4 GND_E4, E5 GND_E5, E6 GND_E6, E7 GND_E7, E8 GND_E8, E9 GND_E9, E10 GND_E10, E11 GND_E11, E12 GND_E12, E13 GND_E13, E14 GND_E14, E15 GND_E15, E16 GND_E16, E17 GND_E17, E18 GND_E18, E19 GND_E19, E20 GND_E20, F1 DP_P_F1, F2 DP_N_F2, F3 DP_P_F3, F4 DP_N_F4, F5 DP_P_F5, F6 DP_N_F6, F7 DP_P_F7, F8 DP_N_F8, F9 DP_P_F9, F10 DP_N_F10, F11 DP_P_F11, F12 DP_N_F12, F13 DP_P_F13, F14 DP_N_F14, F15 DP_P_F15, F16 DP_N_F16, F17 DP_P_F17, F18 DP_N_F18, F19 DP_P_F19, F20 DP_N_F20, W1 GND_W1, W2 VCC5_W2 (power), W3 VCC33_W3 (power), W4 VCC25_W4 (power), W5 VCC18_W5 (power), W6 GND_W6, X1 GND_X1, X2 VCC5_X2 (power), X3 VCC33_X3 (power), X4 VCC25_X4 (power), X5 VCC18_X5 (power), X6 GND_X6, Y1 GND_Y1, Y2 VCC5_Y2 (power), Y3 VCC33_Y3 (power), Y4 VCC25_Y4 (power), Y5 VCC18_Y5 (power), Y6 GND_Y6, Z1 GND_Z1, Z2 VCC5_Z2 (power), Z3 VCC33_Z3 (power), Z4 VCC25_Z4 (power), Z5 VCC18_Z5 (power), Z6 GND_Z6